# Altium schematic symbol library LT1715.SchLib: 1 symbol
Pins are listed as number, name and electrical type; pins without a type are passive.

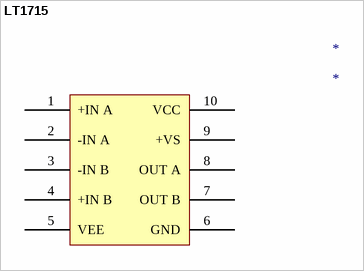
[diagram p0: symbol LT1715]

## LT1715
designator *
pins: 1 +IN A, 2 -IN A, 3 -IN B, 4 +IN B, 5 VEE, 6 GND, 7 OUT B, 8 OUT A, 9 +VS, 10 VCC